# Altium footprint library nail_detector.PcbLib: 77 footprints (part 4 of 5)
Each footprint in its own frame and in the unit in brackets; x right, y up, seen from the top. Pads: shape width x height; smd on the part's side, far side on the other; paste and mask are expansions set on the pad; w line width, h text height; cw(c..) or ccw(c..) is an arc to the next point about the centre after c.
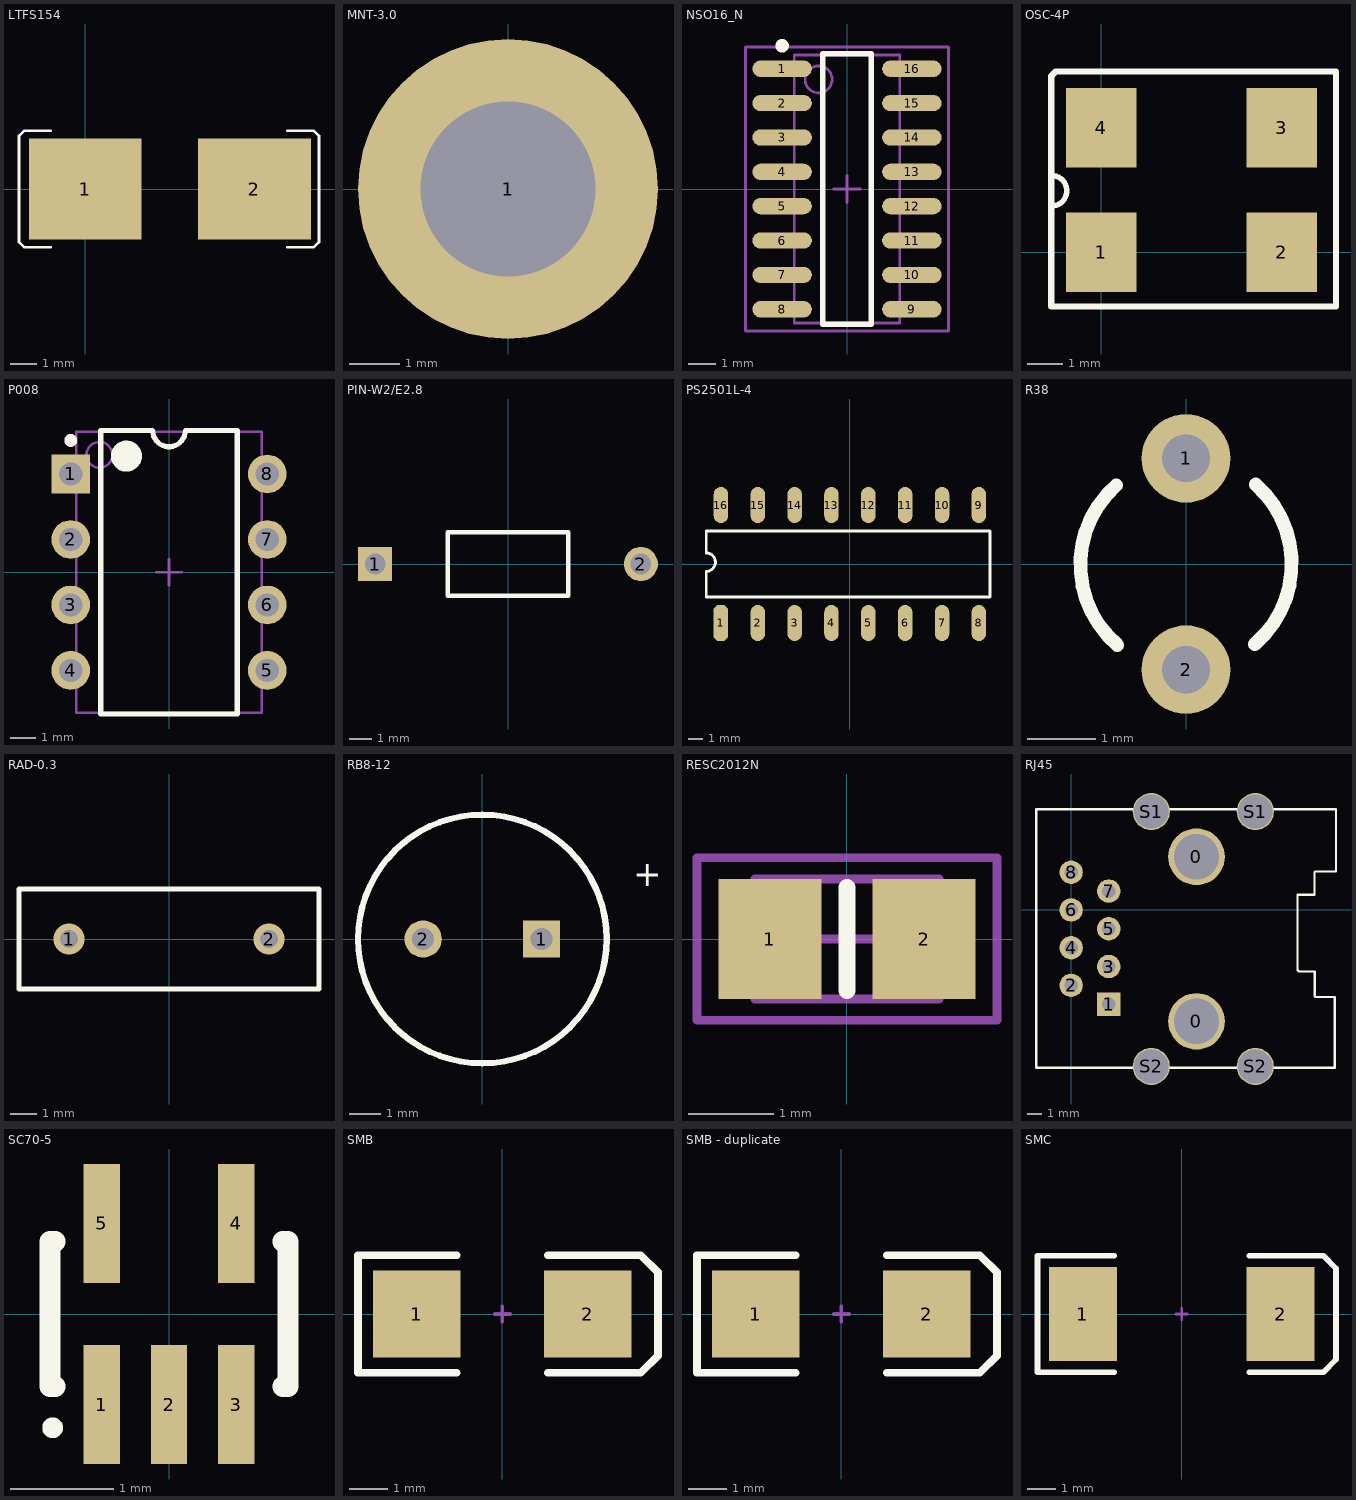
[diagram p3: the footprints below, top view; thin cyan lines are the x and y axes]

## LTFS154 [mm] "little fuse 154"
height 3.81
pads (2):
  rect 4.24x3.81 smd: 1(0,0) 2(6.37,0)
Top Overlay:
  lines w0.1: -1.3,-2.2 -2.3,-2.2 -2.5,-2 -2.5,2 -2.3,2.2 -1.3,2.2 ; 7.6,-2.2 8.6,-2.2 8.8,-2 8.8,2 8.6,2.2 7.6,2.2

## MNT-3.0 [mm] "Mount hole; 3.0mm"
height 16
pads (1):
  round 6 hole 3.5: 1(0,0)

## NSO16_N [mm] "SOIC, 16-Leads, Body 9.9x3.9mm, Pitch 1.27mm, IPC Medium Density"
height 1.75
pads (16):
  oval 2.2x0.6 smd: 1(-2.4,4.445) 2(-2.4,3.175) 3(-2.4,1.905) 4(-2.4,0.635) 5(-2.4,-0.635) 6(-2.4,-1.905) 7(-2.4,-3.175) 8(-2.4,-4.445) 9(2.4,-4.445) 10(2.4,-3.175) 11(2.4,-1.905) 12(2.4,-0.635) 13(2.4,0.635) 14(2.4,1.905) 15(2.4,3.175) 16(2.4,4.445)
Top Overlay:
  circle w0.25: c-2.4,5.295 r0.125
  lines w0.2: -0.9,-5 0.9,-5 0.9,5 -0.9,5 -0.9,-5
Mechanical 13:
  circle w0.1: c-1.05,4.05 r0.5
  lines w0.1: -1.95,-4.95 1.95,-4.95 1.95,4.95 -1.95,4.95 -1.95,-4.95
Mechanical 15:
  lines w0.1: -0.5,0 0.5,0 ; 0,-0.5 0,0.5 ; -3.75,-5.25 3.75,-5.25 3.75,5.25 -3.75,5.25 -3.75,-5.25
3D body: height 1.75, standoff 0, extent -1.95,-4.95 1.95,4.95

## OSC-4P [mil]
height 209.84
pads (4):
  rect 78x88 smd: 1(0,0) 2(200,0) 3(200,138) 4(0,138)
Top Overlay:
  lines w6: -55,50.94 ccw(c-55,67.97) -55,85
  lines w7: -55,-60 260,-60 260,200 -50,200 -55,195 -55,-60

## P008 [mm] "DIP, 8-Leads, Row Spacing 7.62mm, Pitch 2.54mm, Body 9.81x6.35mm"
height 5.08
pads (8):
  rect 1.5x1.5 hole 0.9: 1(-3.81,3.81)
  round 1.5 hole 0.9: 2(-3.81,1.27) 3(-3.81,-1.27) 4(-3.81,-3.81) 5(3.81,-3.81) 6(3.81,-1.27) 7(3.81,1.27) 8(3.81,3.81)
Top Overlay:
  circle w0.6: c-1.65,4.5 r0.3
  circle w0.25: c-3.81,5.11 r0.125
  lines w0.2: -2.65,-5.5 2.65,-5.5 2.65,5.5 0.635,5.5 cw(c0,5.5) -0.635,5.5 -2.65,5.5 -2.65,-5.5
Mechanical 13:
  circle w0.1: c-2.7,4.55 r0.5
  lines w0.1: -3.6,-5.45 3.6,-5.45 3.6,5.45 -3.6,5.45 -3.6,-5.45
Mechanical 15:
  lines w0.1: -0.5,0 0.5,0 ; 0,-0.5 0,0.5
3D body: height 5.08, standoff 0, extent -3.6,-5.45 3.6,5.45

## PIN-W2/E2.8 [mm] "Thru-Hole; 2 Leads"
pads (2):
  rect 1.5x1.5 hole 0.9: 1(-5.825,0)
  round 1.5 hole 0.9: 2(5.825,0)
Top Overlay:
  lines w0.2: -2.65,-1.4 -2.65,1.4 2.65,1.4 2.65,-1.4 -2.65,-1.4

## PS2501L-4 [mm]
height 3.8
pads (16):
  oct 1x2.5 smd: 1(-8.89,-4.064)
  oval 1x2.5 smd: 2(-6.35,-4.064) 3(-3.81,-4.064) 4(-1.27,-4.064) 5(1.27,-4.064) 6(3.81,-4.064) 7(6.35,-4.064) 8(8.89,-4.064) 9(8.89,4.064) 10(6.35,4.064) 11(3.81,4.064) 12(1.27,4.064) 13(-1.27,4.064) 14(-3.81,4.064) 15(-6.35,4.064) 16(-8.89,4.064)
Top Overlay:
  lines w0.2: -9.906,-2.286 -9.906,-0.508 ccw(c-9.906,0.127) -9.906,0.762 -9.906,2.286 9.652,2.286 9.652,-2.286 -9.906,-2.286
3D body: height 3.8, standoff 0.2, extent -9.906,-3.81 9.906,3.81

## R38 [mm] "Crystal, Thru-Hole; 2 Leads; Body 3.1 x 8.2 mm (Dia.xH)"
height 8.2
pads (2):
  round 1.3 hole 0.7: 1(0,1.55) 2(0,-1.55)
Top Overlay:
  lines w0.2: -1.022,1.155 ccw(c0,-0.01) -1.006,-1.189 ; 1.006,-1.179 ccw(c0,0) 1.022,1.165

## RAD-0.3 [mm] "Radial Cap, Thru-Hole; 2 Leads; 0.3 in Pin Spacing"
height 6
pads (2):
  round 1.2 hole 0.7: 1(-3.81,0) 2(3.81,0)
Top Overlay:
  lines w0.2: -5.715,-1.905 -5.715,1.905 5.715,1.905 5.715,-1.905 -5.715,-1.905

## RB8-12 [mm] "Polarized Capacitor (Radial); 2 Leads,D=8,H=12"
height 12
pads (2):
  rect 1.2x1.2 hole 0.7: 1(1.905,0)
  round 1.2 hole 0.7: 2(-1.905,0)
Top Overlay:
  circle w0.2: c0,0 r4
  text "+" at 4.851,1.702 h0.8
3D body: height 8, standoff 0, extent -3.904,-3.937 4.064,4.047

## RESC2012N [mm] "Chip Resistor, Body 2.0x1.3mm, IPC Medium Density"
height 0.65
pads (2):
  rect 1.2x1.4 smd: 1(-0.9,0) 2(0.9,0)
Top Overlay:
  lines w0.2: 0,-0.6 0,0.6
Mechanical 13:
  lines w0.1: -1.075,-0.7 1.075,-0.7 1.075,0.7 -1.075,0.7 -1.075,-0.7
Mechanical 15:
  lines w0.1: -0.5,0 0.5,0 ; 0,-0.5 0,0.5 ; -1.75,-0.95 1.75,-0.95 1.75,0.95 -1.75,0.95 -1.75,-0.95
3D body: height 0.65, standoff 0, extent -1.075,-0.7 1.075,0.7

## RJ45 [mm]
height 1.6
pads (14):
  round 3.81 hole 3.048: 0(8.44,-7.5) 0(8.44,3.578)
  rect 1.575x1.575 hole 0.9: 1(2.54,-6.35)
  round 1.575 hole 0.9: 2(0,-5.08) 3(2.54,-3.81) 4(0,-2.54) 5(2.54,-1.27) 6(0,0) 7(2.54,1.27) 8(0,2.54)
  round 2.5 hole 2.3: S1(5.4,6.62) S1(12.4,6.62) S2(5.4,-10.532) S2(12.4,-10.532)
Top Overlay:
  lines w0.152: 6.706,-10.617 17.755,-10.617 17.755,-5.867 16.459,-5.867 16.408,-5.817 16.408,-4.14 15.342,-4.14 15.24,-4.039 15.24,-3.81 15.24,1.016 16.383,1.016 16.383,2.54 16.434,2.591 17.831,2.591 17.831,6.782 6.706,6.782 ; 6.858,-10.617 -2.337,-10.617 -2.337,6.756 -2.362,6.782 7.366,6.782
3D body: height 14.55, standoff -3.6, extent -4.939,-10.643 19.061,6.957

## SC70-5 [mm] "SOT-353/SC-88A; 5 Leads; Body 2.2 x 2.4 mm, inc. leads (LxW max)"
height 1.1
pads (5):
  rect 0.35x1.15 smd: 1(-0.65,-0.875) 2(0,-0.875) 3(0.65,-0.875) 4(0.65,0.875) 5(-0.65,0.875)
Top Overlay:
  circle w0.1: c-1.125,-1.1 r0.05
  lines w0.2: -1.1,-0.7 -1.15,-0.7 -1.15,0.7 -1.1,0.7 ; 1.1,-0.7 1.15,-0.7 1.15,0.7 1.1,0.7
3D body: height 0.49, standoff -0.49, extent -1,-1.1 1,1.1

## SMB [mm] "DO-214-AA/SMB; 2 C-Bend Leads; Body 5.3 x 3.6 mm, inc. leads (LxW)"
height 2.54
pads (2):
  rect 2.3x2.3 smd: 1(-2.25,0) 2(2.25,0)
Top Overlay:
  lines w0.2: -1.2,-1.55 -3.8,-1.55 -3.8,1.55 -1.2,1.55 ; 1.2,-1.55 3.65,-1.55 4.1,-1.1 4.1,1.1 3.65,1.55 1.2,1.55
Mechanical 1:
  lines w0.1: -0.2,0 0.2,0 ; 0,-0.2 0,0.2

## SMB - duplicate [mm] "DO-214-AA/SMB; 2 C-Bend Leads; Body 5.3 x 3.6 mm, inc. leads (LxW)"
height 2.54
pads (2):
  rect 2.3x2.3 smd: 1(-2.25,0) 2(2.25,0)
Top Overlay:
  lines w0.2: -1.2,-1.55 -3.8,-1.55 -3.8,1.55 -1.2,1.55 ; 1.2,-1.55 3.65,-1.55 4.1,-1.1 4.1,1.1 3.65,1.55 1.2,1.55
Mechanical 1:
  lines w0.1: -0.2,0 0.2,0 ; 0,-0.2 0,0.2

## SMC [mm] "DO-214-AB/SMC; 2 C-Bend Leads; Body 7.9 x 5.9 mm, inc. leads (LxW)"
height 2.65
pads (2):
  rect 2.4x3.3 smd: 1(-3.475,0) 2(3.475,0)
Top Overlay:
  lines w0.2: -2.375,-2.05 -5.075,-2.05 -5.075,2.05 -2.375,2.05 ; 2.375,-2.05 4.975,-2.05 5.425,-1.6 5.425,1.6 4.975,2.055 ; 2.375,2.05 4.975,2.05
Mechanical 1:
  lines w0.1: -0.2,0 0.2,0 ; 0,-0.2 0,0.2